# Altium footprint library Phonejack.PcbLib: 1 footprints
Each footprint in its own frame and in the unit in brackets; x right, y up, seen from the top. Pads: shape width x height; smd on the part's side, far side on the other; paste and mask are expansions set on the pad; w line width, h text height; cw(c..) or ccw(c..) is an arc to the next point about the centre after c.
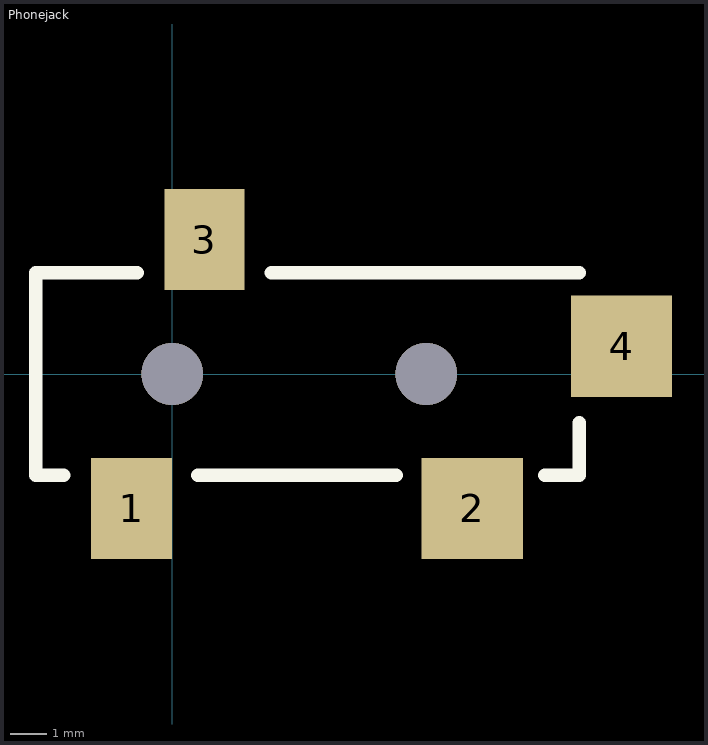
[diagram p0: the footprint, top view; thin cyan lines are the x and y axes]

## Phonejack [mil] "3.5mm phone jack"
pads (4):
  rect 88x110 smd: 1(-44,-146)
  rect 110x110 smd: 2(326,-146) 4(488,30)
  rect 87x110 smd: 3(35,146)
via 0,0 diameter 67 hole 67
via 276,0 diameter 67 hole 67
Top Overlay:
  lines w15: -118,-110 -148,-110 -148,110 -38,110 ; 28,-110 243,-110 ; 108,110 442,110 ; 405,-110 442,-110 442,-53
3D body: height 195, standoff 5, extent -237,-94.97 -137,94.98
3D body: height 200, standoff 5, extent -140,-102 434,102
3D body: height 10, standoff 0, extent -65,-167 508,166